# EAGLE library part VG-H11 (library 1A-meinLib)
VG-Schaltkarte 220mm lang mit DIN 41612 H11 Stecker
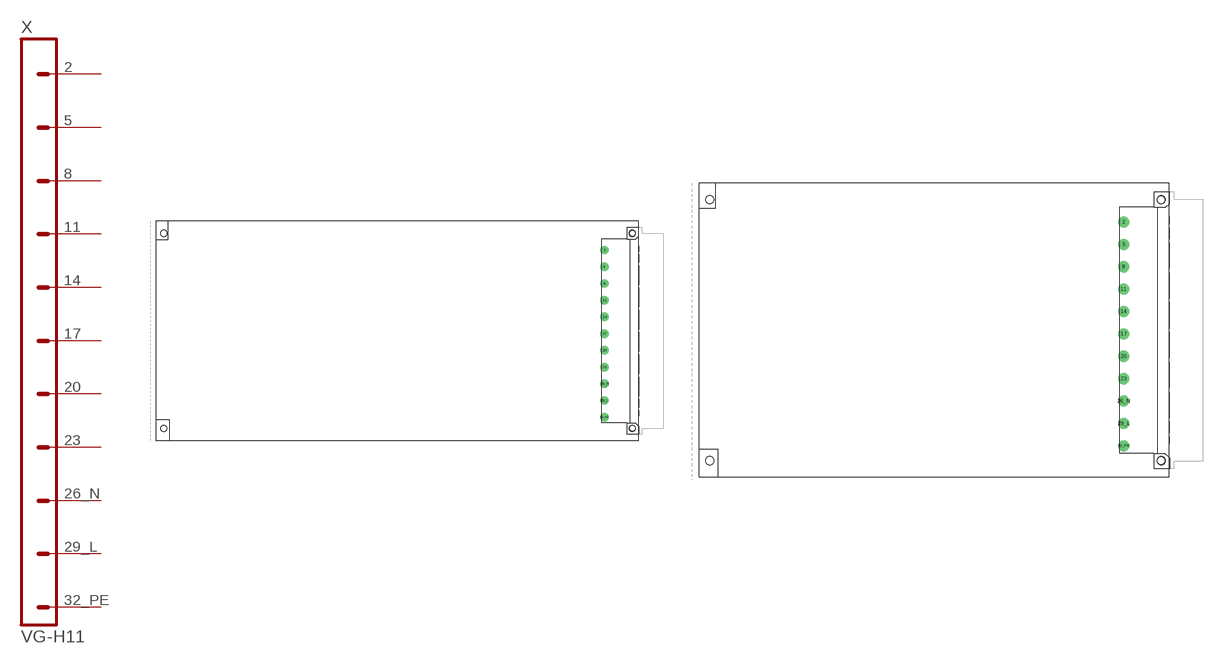
[diagram p65: symbol with the pads of VG-H11-K220; footprints VG-H11-K220, VG-H11-K160]

Designator prefix X

## VG-H11  [VG-H11-K220]
2  2  pas
5  5  pas
8  8  pas
11  11  pas
14  14  pas
17  17  pas
20  20  pas
23  23  pas
26_N  26  pas
29_L  29  pas
32_PE  32  pas

## VG-H11K160  [VG-H11-K160]
Pads as for VG-H11-K220

## VG-H11STIFTLEISTE  [VG-H11-STIFTLEISTE]
Pads as for VG-H11-K220

## Footprint VG-H11-K220 (pad centres in mm)
drill 1.6 pad 3.81 round: 2 143.51,83.82; 5 143.51,76.2; 8 143.51,68.58; 11 143.51,60.96; 14 143.51,53.34; 17 143.51,45.72; 20 143.51,38.1; 23 143.51,30.48; 26_N 143.51,22.86; 29_L 143.51,15.24; 32_PE 143.51,7.62
hole 2.794 at 156.21,91.44
hole 2.794 at 156.21,2.54
hole 2.8 at -57.404,2.54
hole 2.8 at -57.404,91.44

## Footprint VG-H11-K160 (pad centres in mm)
drill 1.6 pad 3.81 round: 2 -15.239,86.362; 5 -15.239,78.743; 8 -15.239,71.123; 11 -15.239,63.502; 14 -15.239,55.883; 17 -15.239,48.263; 20 -15.239,40.642; 23 -15.239,33.023; 26_N -15.239,25.402; 29_L -15.239,17.782; 32_PE -15.239,10.162
hole 2.794 at -2.539,93.983
hole 2.794 at -2.539,5.082
hole 2.8 at -156.153,5.082
hole 2.8 at -156.153,93.983

## Footprint VG-H11-STIFTLEISTE (pad centres in mm)
drill 1.6 pad 3.81 round: 2 -12.699,81.282; 5 -12.699,73.662; 8 -12.699,66.043; 11 -12.699,58.422; 14 -12.699,50.803; 17 -12.699,43.182; 20 -12.699,35.562; 23 -12.699,27.942; 26_N -12.699,20.323; 29_L -12.699,12.703; 32_PE -12.699,5.082
hole 2.8 at 0,88.9
hole 2.8 at 0,0